# Altium integrated library NSC MiscPower.IntLib: 1417 symbols (part 21 of 39)
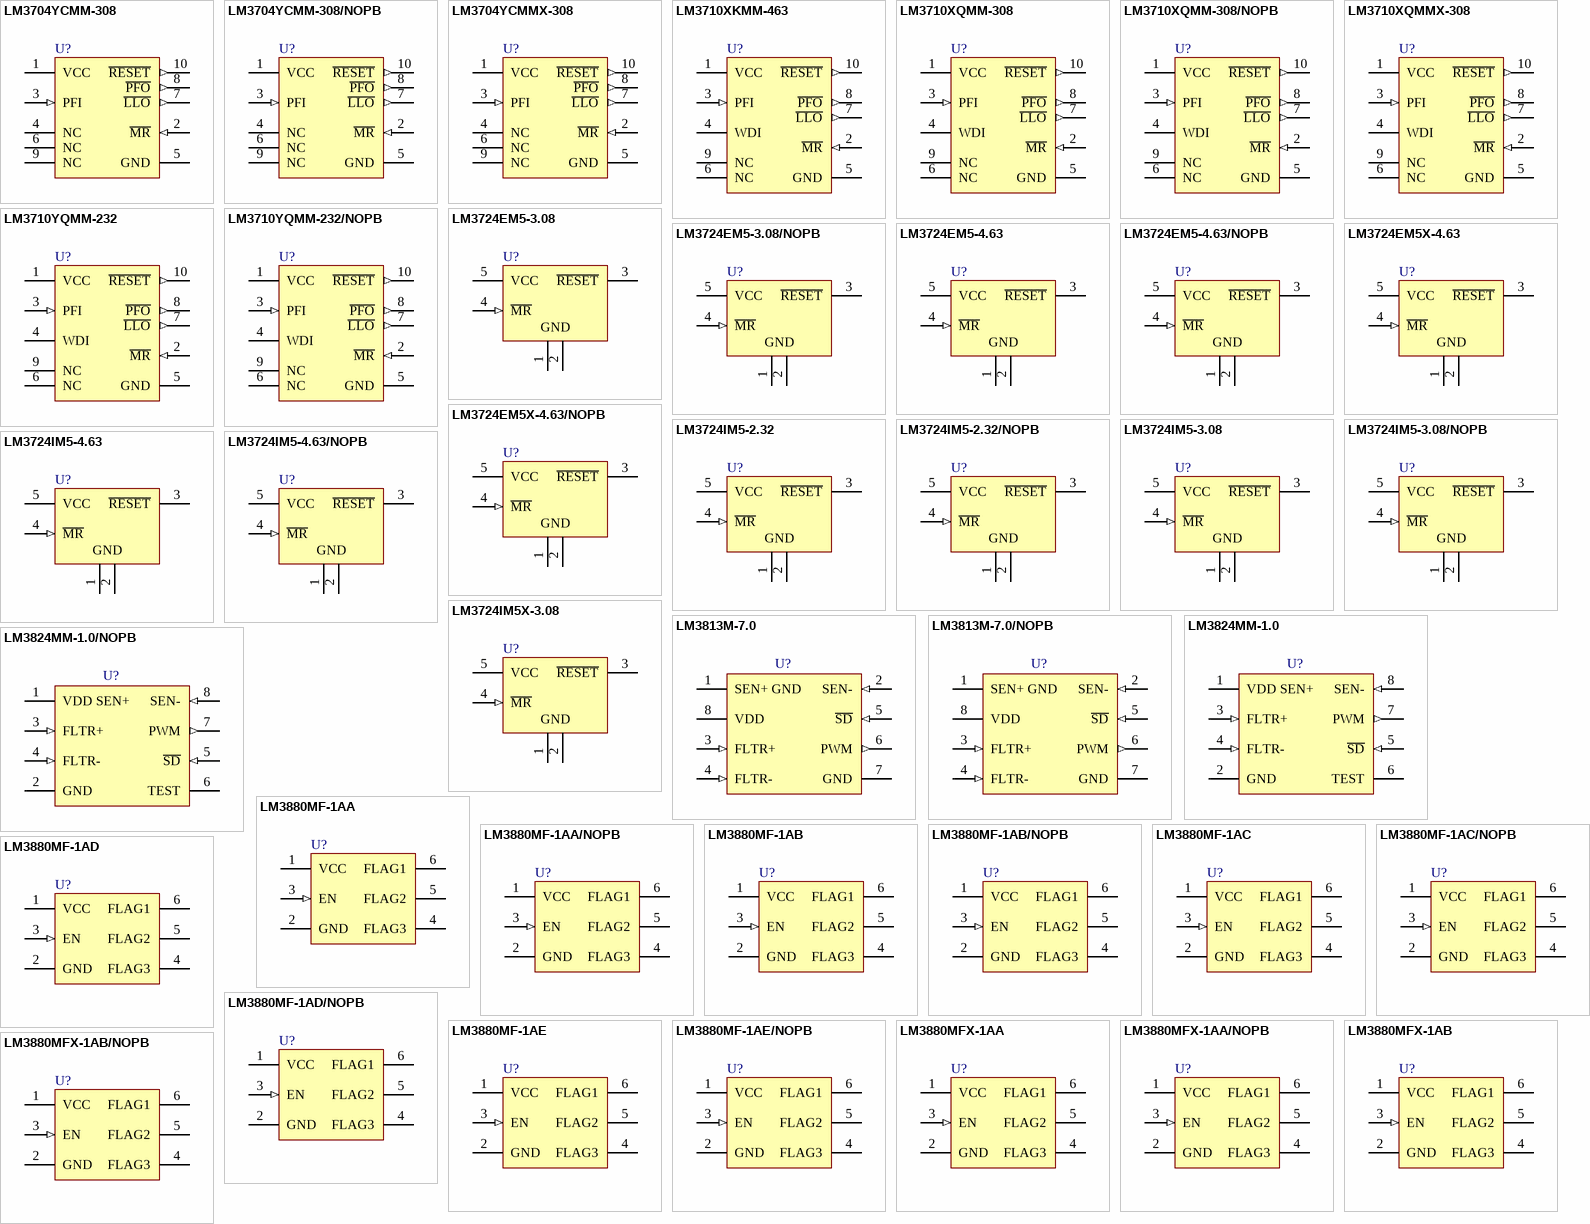
[diagram p71: symbols LM3704YCMM-308 to LM3880MFX-1AB/NOPB]

## LM3824MM-1.0
designator U?
Precision Current Gauge IC with Internal Zero Ohm Sense Element and PWM Output, 8-pin MSOP; PartNumber: LM3824MM-1.0; Manufacturer: National Semiconductor; PackageTopMarking: ZXTT*R24B; PowerWise: N; CompType: MiscPower; Published: 4-Dec-2008; DatasheetVersion: Jul-2000; PackageVersion: revF, Apr-2008; PackageReference: MUA08A; Publisher: Altium Limited; PackageDescription: MINI SOIC, .118 x .118 x .034in, 8 Lead, .0256in Pitch; Supplier 1: Farnell; Supplier Part Number 1: 1312738; RoHS: N; PinCount: 8; Code_JEDEC: MO-187-AA; ComponentLink1Description: LM3824 Datasheet; ComponentLink1URL: http://www.national.com/ds/LM/LM3824.pdf; ComponentLink2Description: LM3824 Web Page; ComponentLink2URL: http://www.national.com/pf/LM/LM3824.html; ComponentLink3Description: MUA08A Package Page; ComponentLink3URL: http://www.national.com/packaging/folders/mua08a.html
footprint MUA08A_N (TSOP, 8-Leads, Body 3x3mm, Pitch 0.65mm, IPC Medium Density)
footprint MUA08A_L (TSOP, 8-Leads, Body 3x3mm, Pitch 0.65mm, IPC High Density)
footprint MUA08A_M (TSOP, 8-Leads, Body 3x3mm, Pitch 0.65mm, IPC Low Density)
pins: 1 VDD SEN+ (power), 2 GND (power), 3 FLTR+ (in), 4 FLTR- (in), 5 ~{SD} (in), 6 TEST (power), 7 PWM (out), 8 SEN- (in)

## LM3824MM-1.0/NOPB
designator U?
Precision Current Gauge IC with Internal Zero Ohm Sense Element and PWM Output, 8-pin MSOP, Pb-Free; PartNumber: LM3824MM-1.0/NOPB; Manufacturer: National Semiconductor; PackageTopMarking: ZXTT*R24B; PowerWise: N; CompType: MiscPower; Published: 1-Mar-2010; DatasheetVersion: Jul-2000; PackageVersion: revF, Apr-2008; PackageReference: MUA08A; Publisher: Altium Limited; PackageDescription: MINI SOIC, .118 x .118 x .034in, 8 Lead, .0256in Pitch; Supplier 1: Digi-Key; Supplier Part Number 1: LM3824MM-1.0TR-ND; Supplier 2: Digi-Key; Supplier Part Number 2: LM3824MM-1.0CT-ND; RoHS: Y; PinCount: 8; Code_JEDEC: MO-187-AA; ComponentLink1Description: LM3824 Datasheet; ComponentLink1URL: http://www.national.com/ds/LM/LM3824.pdf; ComponentLink2Description: LM3824 Web Page; ComponentLink2URL: http://www.national.com/pf/LM/LM3824.html; ComponentLink3Description: MUA08A Package Page; ComponentLink3URL: http://www.national.com/packaging/folders/mua08a.html
footprint MUA08A_N (TSOP, 8-Leads, Body 3x3mm, Pitch 0.65mm, IPC Medium Density)
footprint MUA08A_L (TSOP, 8-Leads, Body 3x3mm, Pitch 0.65mm, IPC High Density)
footprint MUA08A_M (TSOP, 8-Leads, Body 3x3mm, Pitch 0.65mm, IPC Low Density)
pins: 1 VDD SEN+ (power), 2 GND (power), 3 FLTR+ (in), 4 FLTR- (in), 5 ~{SD} (in), 6 TEST (power), 7 PWM (out), 8 SEN- (in)

## LM3880MF-1AA
designator U?
Power Sequencer, 6-pin SOT-23; PartNumber: LM3880MF-1AA; Manufacturer: National Semiconductor; PackageTopMarking: F20A*XTT; PowerWise: N; CompType: MiscPower; Published: 4-Dec-2008; DatasheetVersion: May-2008; PackageVersion: revC, Sep-2005; PackageReference: MF06A; Publisher: Altium Limited; PackageDescription: Molded SOT-23, .115 x .063 x .040in Body, 6 Lead, .0375in in Pitch; Supplier 1: Farnell; Supplier Part Number 1: 1342323; RoHS: N; PinCount: 6; Code_JEDEC: MO-178-AB; Code_IPC: SOT26A-6; ComponentLink1Description: LM3880 Datasheet; ComponentLink1URL: http://www.national.com/ds/LM/LM3880.pdf; ComponentLink2Description: LM3880 Web Page; ComponentLink2URL: http://www.national.com/pf/LM/LM3880.html; ComponentLink3Description: MF06A Package Page; ComponentLink3URL: http://www.national.com/packaging/folders/mf06a.html
footprint MF06A_N (SOT23, 6-Leads, Body 2.9x1.6mm, Pitch 0.95mm, Lead Span 2.8mm, IPC Medium Density)
footprint MF06A_L (SOT23, 6-Leads, Body 2.9x1.6mm, Pitch 0.95mm, Lead Span 2.8mm, IPC High Density)
footprint MF06A_M (SOT23, 6-Leads, Body 2.9x1.6mm, Pitch 0.95mm, Lead Span 2.8mm, IPC Low Density)
pins: 1 VCC (power), 2 GND (power), 3 EN (in), 4 FLAG3 (oc), 5 FLAG2 (oc), 6 FLAG1 (oc)

## LM3880MF-1AA/NOPB
designator U?
Power Sequencer, 6-pin SOT-23, Pb-Free; PartNumber: LM3880MF-1AA/NOPB; Manufacturer: National Semiconductor; PackageTopMarking: F20A*XTT; PowerWise: N; CompType: MiscPower; Published: 1-Mar-2010; DatasheetVersion: May-2008; PackageVersion: revC, Sep-2005; PackageReference: MF06A; Publisher: Altium Limited; PackageDescription: Molded SOT-23, .115 x .063 x .040in Body, 6 Lead, .0375in in Pitch; Supplier 1: Digi-Key; Supplier Part Number 1: LM3880MF-1AATR-ND; Supplier 2: Digi-Key; Supplier Part Number 2: LM3880MF-1AACT-ND; Supplier 3: Digi-Key; Supplier Part Number 3: LM3880MF-1AADKR-ND; Supplier 4: Farnell; Supplier Part Number 4: 1364356; RoHS: Y; PinCount: 6; Code_JEDEC: MO-178-AB; Code_IPC: SOT26A-6; ComponentLink1Description: LM3880 Datasheet; ComponentLink1URL: http://www.national.com/ds/LM/LM3880.pdf; ComponentLink2Description: LM3880 Web Page; ComponentLink2URL: http://www.national.com/pf/LM/LM3880.html; ComponentLink3Description: MF06A Package Page; ComponentLink3URL: http://www.national.com/packaging/folders/mf06a.html
footprint MF06A_N (SOT23, 6-Leads, Body 2.9x1.6mm, Pitch 0.95mm, Lead Span 2.8mm, IPC Medium Density)
footprint MF06A_L (SOT23, 6-Leads, Body 2.9x1.6mm, Pitch 0.95mm, Lead Span 2.8mm, IPC High Density)
footprint MF06A_M (SOT23, 6-Leads, Body 2.9x1.6mm, Pitch 0.95mm, Lead Span 2.8mm, IPC Low Density)
pins: 1 VCC (power), 2 GND (power), 3 EN (in), 4 FLAG3 (oc), 5 FLAG2 (oc), 6 FLAG1 (oc)

## LM3880MF-1AB
designator U?
Power Sequencer, 6-pin SOT-23; PartNumber: LM3880MF-1AB; Manufacturer: National Semiconductor; PackageTopMarking: F21A*XTT; PowerWise: N; CompType: MiscPower; Published: 4-Dec-2008; DatasheetVersion: May-2008; PackageVersion: revC, Sep-2005; PackageReference: MF06A; Publisher: Altium Limited; PackageDescription: Molded SOT-23, .115 x .063 x .040in Body, 6 Lead, .0375in in Pitch; Supplier 1: Farnell; Supplier Part Number 1: 1271399; RoHS: N; PinCount: 6; Code_JEDEC: MO-178-AB; Code_IPC: SOT26A-6; ComponentLink1Description: LM3880 Datasheet; ComponentLink1URL: http://www.national.com/ds/LM/LM3880.pdf; ComponentLink2Description: LM3880 Web Page; ComponentLink2URL: http://www.national.com/pf/LM/LM3880.html; ComponentLink3Description: MF06A Package Page; ComponentLink3URL: http://www.national.com/packaging/folders/mf06a.html
footprint MF06A_N (SOT23, 6-Leads, Body 2.9x1.6mm, Pitch 0.95mm, Lead Span 2.8mm, IPC Medium Density)
footprint MF06A_L (SOT23, 6-Leads, Body 2.9x1.6mm, Pitch 0.95mm, Lead Span 2.8mm, IPC High Density)
footprint MF06A_M (SOT23, 6-Leads, Body 2.9x1.6mm, Pitch 0.95mm, Lead Span 2.8mm, IPC Low Density)
pins: 1 VCC (power), 2 GND (power), 3 EN (in), 4 FLAG3 (oc), 5 FLAG2 (oc), 6 FLAG1 (oc)

## LM3880MF-1AB/NOPB
designator U?
Power Sequencer, 6-pin SOT-23, Pb-Free; PartNumber: LM3880MF-1AB/NOPB; Manufacturer: National Semiconductor; PackageTopMarking: F21A*XTT; PowerWise: N; CompType: MiscPower; Published: 1-Mar-2010; DatasheetVersion: May-2008; PackageVersion: revC, Sep-2005; PackageReference: MF06A; Publisher: Altium Limited; PackageDescription: Molded SOT-23, .115 x .063 x .040in Body, 6 Lead, .0375in in Pitch; Supplier 1: Digi-Key; Supplier Part Number 1: LM3880MF-1ABTR-ND; Supplier 2: Digi-Key; Supplier Part Number 2: LM3880MF-1ABCT-ND; Supplier 3: Digi-Key; Supplier Part Number 3: LM3880MF-1ABDKR-ND; RoHS: Y; PinCount: 6; Code_JEDEC: MO-178-AB; Code_IPC: SOT26A-6; ComponentLink1Description: LM3880 Datasheet; ComponentLink1URL: http://www.national.com/ds/LM/LM3880.pdf; ComponentLink2Description: LM3880 Web Page; ComponentLink2URL: http://www.national.com/pf/LM/LM3880.html; ComponentLink3Description: MF06A Package Page; ComponentLink3URL: http://www.national.com/packaging/folders/mf06a.html
footprint MF06A_N (SOT23, 6-Leads, Body 2.9x1.6mm, Pitch 0.95mm, Lead Span 2.8mm, IPC Medium Density)
footprint MF06A_L (SOT23, 6-Leads, Body 2.9x1.6mm, Pitch 0.95mm, Lead Span 2.8mm, IPC High Density)
footprint MF06A_M (SOT23, 6-Leads, Body 2.9x1.6mm, Pitch 0.95mm, Lead Span 2.8mm, IPC Low Density)
pins: 1 VCC (power), 2 GND (power), 3 EN (in), 4 FLAG3 (oc), 5 FLAG2 (oc), 6 FLAG1 (oc)

## LM3880MF-1AC
designator U?
Power Sequencer, 6-pin SOT-23; PartNumber: LM3880MF-1AC; Manufacturer: National Semiconductor; PackageTopMarking: F22A*XTT; PowerWise: N; CompType: MiscPower; Published: 4-Dec-2008; DatasheetVersion: May-2008; PackageVersion: revC, Sep-2005; PackageReference: MF06A; Publisher: Altium Limited; PackageDescription: Molded SOT-23, .115 x .063 x .040in Body, 6 Lead, .0375in in Pitch; RoHS: N; PinCount: 6; Code_JEDEC: MO-178-AB; Code_IPC: SOT26A-6; ComponentLink1Description: LM3880 Datasheet; ComponentLink1URL: http://www.national.com/ds/LM/LM3880.pdf; ComponentLink2Description: LM3880 Web Page; ComponentLink2URL: http://www.national.com/pf/LM/LM3880.html; ComponentLink3Description: MF06A Package Page; ComponentLink3URL: http://www.national.com/packaging/folders/mf06a.html
footprint MF06A_N (SOT23, 6-Leads, Body 2.9x1.6mm, Pitch 0.95mm, Lead Span 2.8mm, IPC Medium Density)
footprint MF06A_L (SOT23, 6-Leads, Body 2.9x1.6mm, Pitch 0.95mm, Lead Span 2.8mm, IPC High Density)
footprint MF06A_M (SOT23, 6-Leads, Body 2.9x1.6mm, Pitch 0.95mm, Lead Span 2.8mm, IPC Low Density)
pins: 1 VCC (power), 2 GND (power), 3 EN (in), 4 FLAG3 (oc), 5 FLAG2 (oc), 6 FLAG1 (oc)

## LM3880MF-1AC/NOPB
designator U?
Power Sequencer, 6-pin SOT-23, Pb-Free; PartNumber: LM3880MF-1AC/NOPB; Manufacturer: National Semiconductor; PackageTopMarking: F22A*XTT; PowerWise: N; CompType: MiscPower; Published: 1-Mar-2010; DatasheetVersion: May-2008; PackageVersion: revC, Sep-2005; PackageReference: MF06A; Publisher: Altium Limited; PackageDescription: Molded SOT-23, .115 x .063 x .040in Body, 6 Lead, .0375in in Pitch; Supplier 1: Digi-Key; Supplier Part Number 1: LM3880MF-1ACTR-ND; Supplier 2: Digi-Key; Supplier Part Number 2: LM3880MF-1ACCT-ND; Supplier 3: Digi-Key; Supplier Part Number 3: LM3880MF-1ACDKR-ND; RoHS: Y; PinCount: 6; Code_JEDEC: MO-178-AB; Code_IPC: SOT26A-6; ComponentLink1Description: LM3880 Datasheet; ComponentLink1URL: http://www.national.com/ds/LM/LM3880.pdf; ComponentLink2Description: LM3880 Web Page; ComponentLink2URL: http://www.national.com/pf/LM/LM3880.html; ComponentLink3Description: MF06A Package Page; ComponentLink3URL: http://www.national.com/packaging/folders/mf06a.html
footprint MF06A_N (SOT23, 6-Leads, Body 2.9x1.6mm, Pitch 0.95mm, Lead Span 2.8mm, IPC Medium Density)
footprint MF06A_L (SOT23, 6-Leads, Body 2.9x1.6mm, Pitch 0.95mm, Lead Span 2.8mm, IPC High Density)
footprint MF06A_M (SOT23, 6-Leads, Body 2.9x1.6mm, Pitch 0.95mm, Lead Span 2.8mm, IPC Low Density)
pins: 1 VCC (power), 2 GND (power), 3 EN (in), 4 FLAG3 (oc), 5 FLAG2 (oc), 6 FLAG1 (oc)

## LM3880MF-1AD
designator U?
Power Sequencer, 6-pin SOT-23; PartNumber: LM3880MF-1AD; Manufacturer: National Semiconductor; PackageTopMarking: F23A*XTT; PowerWise: N; CompType: MiscPower; Published: 4-Dec-2008; DatasheetVersion: May-2008; PackageVersion: revC, Sep-2005; PackageReference: MF06A; Publisher: Altium Limited; PackageDescription: Molded SOT-23, .115 x .063 x .040in Body, 6 Lead, .0375in in Pitch; RoHS: N; PinCount: 6; Code_JEDEC: MO-178-AB; Code_IPC: SOT26A-6; ComponentLink1Description: LM3880 Datasheet; ComponentLink1URL: http://www.national.com/ds/LM/LM3880.pdf; ComponentLink2Description: LM3880 Web Page; ComponentLink2URL: http://www.national.com/pf/LM/LM3880.html; ComponentLink3Description: MF06A Package Page; ComponentLink3URL: http://www.national.com/packaging/folders/mf06a.html
footprint MF06A_N (SOT23, 6-Leads, Body 2.9x1.6mm, Pitch 0.95mm, Lead Span 2.8mm, IPC Medium Density)
footprint MF06A_L (SOT23, 6-Leads, Body 2.9x1.6mm, Pitch 0.95mm, Lead Span 2.8mm, IPC High Density)
footprint MF06A_M (SOT23, 6-Leads, Body 2.9x1.6mm, Pitch 0.95mm, Lead Span 2.8mm, IPC Low Density)
pins: 1 VCC (power), 2 GND (power), 3 EN (in), 4 FLAG3 (oc), 5 FLAG2 (oc), 6 FLAG1 (oc)

## LM3880MF-1AD/NOPB
designator U?
Power Sequencer, 6-pin SOT-23, Pb-Free; PartNumber: LM3880MF-1AD/NOPB; Manufacturer: National Semiconductor; PackageTopMarking: F23A*XTT; PowerWise: N; CompType: MiscPower; Published: 1-Mar-2010; DatasheetVersion: May-2008; PackageVersion: revC, Sep-2005; PackageReference: MF06A; Publisher: Altium Limited; PackageDescription: Molded SOT-23, .115 x .063 x .040in Body, 6 Lead, .0375in in Pitch; Supplier 1: Digi-Key; Supplier Part Number 1: LM3880MF-1ADTR-ND; Supplier 2: Digi-Key; Supplier Part Number 2: LM3880MF-1ADCT-ND; Supplier 3: Digi-Key; Supplier Part Number 3: LM3880MF-1ADDKR-ND; RoHS: Y; PinCount: 6; Code_JEDEC: MO-178-AB; Code_IPC: SOT26A-6; ComponentLink1Description: LM3880 Datasheet; ComponentLink1URL: http://www.national.com/ds/LM/LM3880.pdf; ComponentLink2Description: LM3880 Web Page; ComponentLink2URL: http://www.national.com/pf/LM/LM3880.html; ComponentLink3Description: MF06A Package Page; ComponentLink3URL: http://www.national.com/packaging/folders/mf06a.html
footprint MF06A_N (SOT23, 6-Leads, Body 2.9x1.6mm, Pitch 0.95mm, Lead Span 2.8mm, IPC Medium Density)
footprint MF06A_L (SOT23, 6-Leads, Body 2.9x1.6mm, Pitch 0.95mm, Lead Span 2.8mm, IPC High Density)
footprint MF06A_M (SOT23, 6-Leads, Body 2.9x1.6mm, Pitch 0.95mm, Lead Span 2.8mm, IPC Low Density)
pins: 1 VCC (power), 2 GND (power), 3 EN (in), 4 FLAG3 (oc), 5 FLAG2 (oc), 6 FLAG1 (oc)

## LM3880MF-1AE
designator U?
Power Sequencer, 6-pin SOT-23; PartNumber: LM3880MF-1AE; Manufacturer: National Semiconductor; PackageTopMarking: F25A*XTT; PowerWise: N; CompType: MiscPower; Published: 4-Dec-2008; DatasheetVersion: May-2008; PackageVersion: revC, Sep-2005; PackageReference: MF06A; Publisher: Altium Limited; PackageDescription: Molded SOT-23, .115 x .063 x .040in Body, 6 Lead, .0375in in Pitch; RoHS: Y; PinCount: 6; Code_JEDEC: MO-178-AB; Code_IPC: SOT26A-6; ComponentLink1Description: LM3880 Datasheet; ComponentLink1URL: http://www.national.com/ds/LM/LM3880.pdf; ComponentLink2Description: LM3880 Web Page; ComponentLink2URL: http://www.national.com/pf/LM/LM3880.html; ComponentLink3Description: MF06A Package Page; ComponentLink3URL: http://www.national.com/packaging/folders/mf06a.html
footprint MF06A_N (SOT23, 6-Leads, Body 2.9x1.6mm, Pitch 0.95mm, Lead Span 2.8mm, IPC Medium Density)
footprint MF06A_L (SOT23, 6-Leads, Body 2.9x1.6mm, Pitch 0.95mm, Lead Span 2.8mm, IPC High Density)
footprint MF06A_M (SOT23, 6-Leads, Body 2.9x1.6mm, Pitch 0.95mm, Lead Span 2.8mm, IPC Low Density)
pins: 1 VCC (power), 2 GND (power), 3 EN (in), 4 FLAG3 (oc), 5 FLAG2 (oc), 6 FLAG1 (oc)

## LM3880MF-1AE/NOPB
designator U?
Power Sequencer, 6-pin SOT-23, Pb-Free; PartNumber: LM3880MF-1AE/NOPB; Manufacturer: National Semiconductor; PackageTopMarking: F25A*XTT; PowerWise: N; CompType: MiscPower; Published: 1-Mar-2010; DatasheetVersion: May-2008; PackageVersion: revC, Sep-2005; PackageReference: MF06A; Publisher: Altium Limited; PackageDescription: Molded SOT-23, .115 x .063 x .040in Body, 6 Lead, .0375in in Pitch; Supplier 1: Digi-Key; Supplier Part Number 1: LM3880MF-1AETR-ND; Supplier 2: Digi-Key; Supplier Part Number 2: LM3880MF-1AECT-ND; Supplier 3: Digi-Key; Supplier Part Number 3: LM3880MF-1AEDKR-ND; RoHS: Y; PinCount: 6; Code_JEDEC: MO-178-AB; Code_IPC: SOT26A-6; ComponentLink1Description: LM3880 Datasheet; ComponentLink1URL: http://www.national.com/ds/LM/LM3880.pdf; ComponentLink2Description: LM3880 Web Page; ComponentLink2URL: http://www.national.com/pf/LM/LM3880.html; ComponentLink3Description: MF06A Package Page; ComponentLink3URL: http://www.national.com/packaging/folders/mf06a.html
footprint MF06A_N (SOT23, 6-Leads, Body 2.9x1.6mm, Pitch 0.95mm, Lead Span 2.8mm, IPC Medium Density)
footprint MF06A_L (SOT23, 6-Leads, Body 2.9x1.6mm, Pitch 0.95mm, Lead Span 2.8mm, IPC High Density)
footprint MF06A_M (SOT23, 6-Leads, Body 2.9x1.6mm, Pitch 0.95mm, Lead Span 2.8mm, IPC Low Density)
pins: 1 VCC (power), 2 GND (power), 3 EN (in), 4 FLAG3 (oc), 5 FLAG2 (oc), 6 FLAG1 (oc)

## LM3880MFX-1AA
designator U?
Power Sequencer, 6-pin SOT-23; PartNumber: LM3880MFX-1AA; Manufacturer: National Semiconductor; PackageTopMarking: F20A*XTT; PowerWise: N; CompType: MiscPower; Published: 1-Mar-2010; DatasheetVersion: May-2008; PackageVersion: revC, Sep-2005; PackageReference: MF06A; Publisher: Altium Limited; PackageDescription: Molded SOT-23, .115 x .063 x .040in Body, 6 Lead, .0375in in Pitch; RoHS: N; PinCount: 6; Code_JEDEC: MO-178-AB; Code_IPC: SOT26A-6; ComponentLink1Description: LM3880 Datasheet; ComponentLink1URL: http://www.national.com/ds/LM/LM3880.pdf; ComponentLink2Description: LM3880 Web Page; ComponentLink2URL: http://www.national.com/pf/LM/LM3880.html; ComponentLink3Description: MF06A Package Page; ComponentLink3URL: http://www.national.com/packaging/folders/mf06a.html
footprint MF06A_N (SOT23, 6-Leads, Body 2.9x1.6mm, Pitch 0.95mm, Lead Span 2.8mm, IPC Medium Density)
footprint MF06A_L (SOT23, 6-Leads, Body 2.9x1.6mm, Pitch 0.95mm, Lead Span 2.8mm, IPC High Density)
footprint MF06A_M (SOT23, 6-Leads, Body 2.9x1.6mm, Pitch 0.95mm, Lead Span 2.8mm, IPC Low Density)
pins: 1 VCC (power), 2 GND (power), 3 EN (in), 4 FLAG3 (oc), 5 FLAG2 (oc), 6 FLAG1 (oc)

## LM3880MFX-1AA/NOPB
designator U?
Power Sequencer, 6-pin SOT-23, Pb-Free; PartNumber: LM3880MFX-1AA/NOPB; Manufacturer: National Semiconductor; PackageTopMarking: F20A*XTT; PowerWise: N; CompType: MiscPower; Published: 1-Mar-2010; DatasheetVersion: May-2008; PackageVersion: revC, Sep-2005; PackageReference: MF06A; Publisher: Altium Limited; PackageDescription: Molded SOT-23, .115 x .063 x .040in Body, 6 Lead, .0375in in Pitch; Supplier 1: Digi-Key; Supplier Part Number 1: LM3880MFX-1AA-ND; RoHS: Y; PinCount: 6; Code_JEDEC: MO-178-AB; Code_IPC: SOT26A-6; ComponentLink1Description: LM3880 Datasheet; ComponentLink1URL: http://www.national.com/ds/LM/LM3880.pdf; ComponentLink2Description: LM3880 Web Page; ComponentLink2URL: http://www.national.com/pf/LM/LM3880.html; ComponentLink3Description: MF06A Package Page; ComponentLink3URL: http://www.national.com/packaging/folders/mf06a.html
footprint MF06A_N (SOT23, 6-Leads, Body 2.9x1.6mm, Pitch 0.95mm, Lead Span 2.8mm, IPC Medium Density)
footprint MF06A_L (SOT23, 6-Leads, Body 2.9x1.6mm, Pitch 0.95mm, Lead Span 2.8mm, IPC High Density)
footprint MF06A_M (SOT23, 6-Leads, Body 2.9x1.6mm, Pitch 0.95mm, Lead Span 2.8mm, IPC Low Density)
pins: 1 VCC (power), 2 GND (power), 3 EN (in), 4 FLAG3 (oc), 5 FLAG2 (oc), 6 FLAG1 (oc)

## LM3880MFX-1AB
designator U?
Power Sequencer, 6-pin SOT-23; PartNumber: LM3880MFX-1AB; Manufacturer: National Semiconductor; PackageTopMarking: F21A*XTT; PowerWise: N; CompType: MiscPower; Published: 1-Mar-2010; DatasheetVersion: May-2008; PackageVersion: revC, Sep-2005; PackageReference: MF06A; Publisher: Altium Limited; PackageDescription: Molded SOT-23, .115 x .063 x .040in Body, 6 Lead, .0375in in Pitch; RoHS: N; PinCount: 6; Code_JEDEC: MO-178-AB; Code_IPC: SOT26A-6; ComponentLink1Description: LM3880 Datasheet; ComponentLink1URL: http://www.national.com/ds/LM/LM3880.pdf; ComponentLink2Description: LM3880 Web Page; ComponentLink2URL: http://www.national.com/pf/LM/LM3880.html; ComponentLink3Description: MF06A Package Page; ComponentLink3URL: http://www.national.com/packaging/folders/mf06a.html
footprint MF06A_N (SOT23, 6-Leads, Body 2.9x1.6mm, Pitch 0.95mm, Lead Span 2.8mm, IPC Medium Density)
footprint MF06A_L (SOT23, 6-Leads, Body 2.9x1.6mm, Pitch 0.95mm, Lead Span 2.8mm, IPC High Density)
footprint MF06A_M (SOT23, 6-Leads, Body 2.9x1.6mm, Pitch 0.95mm, Lead Span 2.8mm, IPC Low Density)
pins: 1 VCC (power), 2 GND (power), 3 EN (in), 4 FLAG3 (oc), 5 FLAG2 (oc), 6 FLAG1 (oc)

## LM3880MFX-1AB/NOPB
designator U?
Power Sequencer, 6-pin SOT-23, Pb-Free; PartNumber: LM3880MFX-1AB/NOPB; Manufacturer: National Semiconductor; PackageTopMarking: F21A*XTT; PowerWise: N; CompType: MiscPower; Published: 1-Mar-2010; DatasheetVersion: May-2008; PackageVersion: revC, Sep-2005; PackageReference: MF06A; Publisher: Altium Limited; PackageDescription: Molded SOT-23, .115 x .063 x .040in Body, 6 Lead, .0375in in Pitch; Supplier 1: Digi-Key; Supplier Part Number 1: LM3880MFX-1AB-ND; RoHS: Y; PinCount: 6; Code_JEDEC: MO-178-AB; Code_IPC: SOT26A-6; ComponentLink1Description: LM3880 Datasheet; ComponentLink1URL: http://www.national.com/ds/LM/LM3880.pdf; ComponentLink2Description: LM3880 Web Page; ComponentLink2URL: http://www.national.com/pf/LM/LM3880.html; ComponentLink3Description: MF06A Package Page; ComponentLink3URL: http://www.national.com/packaging/folders/mf06a.html
footprint MF06A_N (SOT23, 6-Leads, Body 2.9x1.6mm, Pitch 0.95mm, Lead Span 2.8mm, IPC Medium Density)
footprint MF06A_L (SOT23, 6-Leads, Body 2.9x1.6mm, Pitch 0.95mm, Lead Span 2.8mm, IPC High Density)
footprint MF06A_M (SOT23, 6-Leads, Body 2.9x1.6mm, Pitch 0.95mm, Lead Span 2.8mm, IPC Low Density)
pins: 1 VCC (power), 2 GND (power), 3 EN (in), 4 FLAG3 (oc), 5 FLAG2 (oc), 6 FLAG1 (oc)

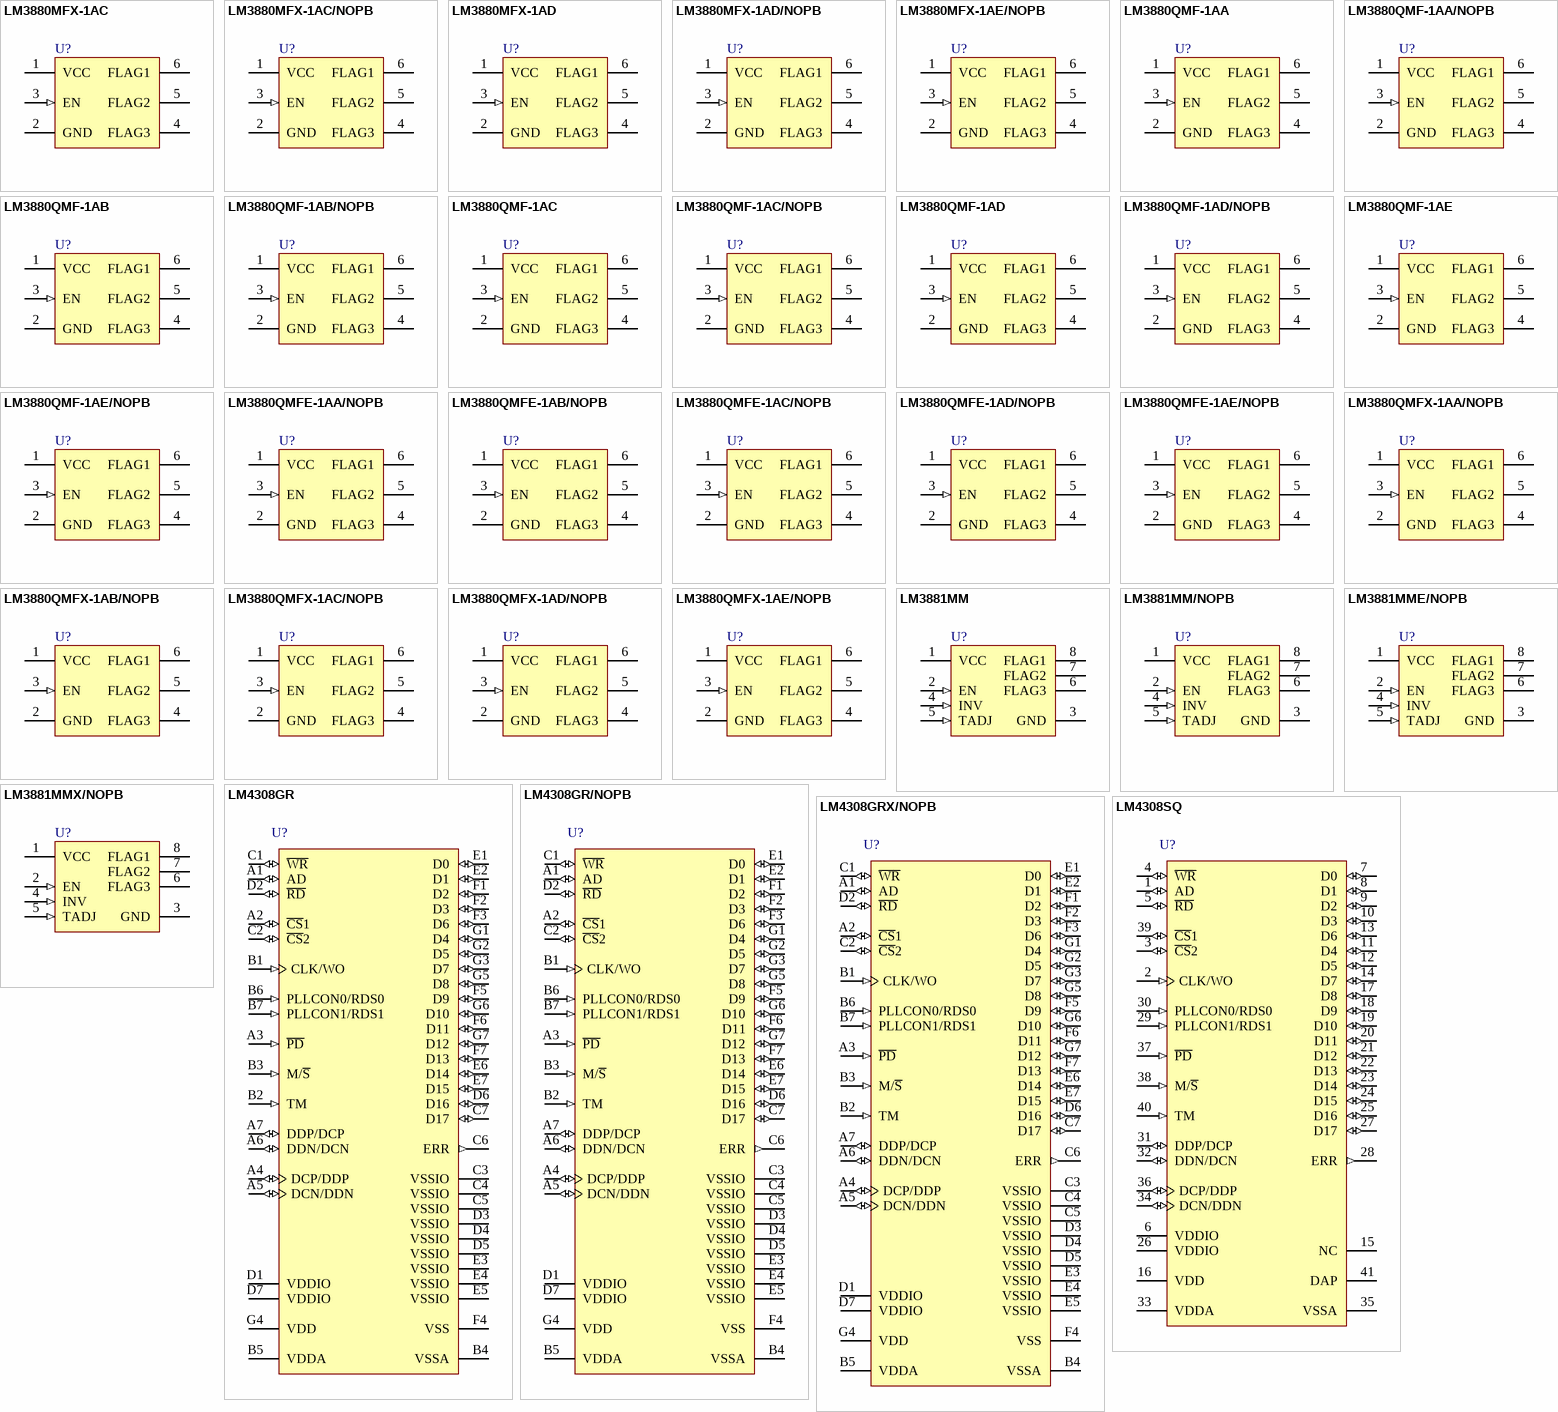
[diagram p23: symbols LM3880MFX-1AC to LM4308SQ]

## LM3880MFX-1AC
designator U?
Power Sequencer, 6-pin SOT-23; PartNumber: LM3880MFX-1AC; Manufacturer: National Semiconductor; PackageTopMarking: F22A*XTT; PowerWise: N; CompType: MiscPower; Published: 1-Mar-2010; DatasheetVersion: May-2008; PackageVersion: revC, Sep-2005; PackageReference: MF06A; Publisher: Altium Limited; PackageDescription: Molded SOT-23, .115 x .063 x .040in Body, 6 Lead, .0375in in Pitch; RoHS: N; PinCount: 6; Code_JEDEC: MO-178-AB; Code_IPC: SOT26A-6; ComponentLink1Description: LM3880 Datasheet; ComponentLink1URL: http://www.national.com/ds/LM/LM3880.pdf; ComponentLink2Description: LM3880 Web Page; ComponentLink2URL: http://www.national.com/pf/LM/LM3880.html; ComponentLink3Description: MF06A Package Page; ComponentLink3URL: http://www.national.com/packaging/folders/mf06a.html
footprint MF06A_N (SOT23, 6-Leads, Body 2.9x1.6mm, Pitch 0.95mm, Lead Span 2.8mm, IPC Medium Density)
footprint MF06A_L (SOT23, 6-Leads, Body 2.9x1.6mm, Pitch 0.95mm, Lead Span 2.8mm, IPC High Density)
footprint MF06A_M (SOT23, 6-Leads, Body 2.9x1.6mm, Pitch 0.95mm, Lead Span 2.8mm, IPC Low Density)
pins: 1 VCC (power), 2 GND (power), 3 EN (in), 4 FLAG3 (oc), 5 FLAG2 (oc), 6 FLAG1 (oc)

## LM3880MFX-1AC/NOPB
designator U?
Power Sequencer, 6-pin SOT-23, Pb-Free; PartNumber: LM3880MFX-1AC/NOPB; Manufacturer: National Semiconductor; PackageTopMarking: F22A*XTT; PowerWise: N; CompType: MiscPower; Published: 1-Mar-2010; DatasheetVersion: May-2008; PackageVersion: revC, Sep-2005; PackageReference: MF06A; Publisher: Altium Limited; PackageDescription: Molded SOT-23, .115 x .063 x .040in Body, 6 Lead, .0375in in Pitch; Supplier 1: Digi-Key; Supplier Part Number 1: LM3880MFX-1AC-ND; RoHS: Y; PinCount: 6; Code_JEDEC: MO-178-AB; Code_IPC: SOT26A-6; ComponentLink1Description: LM3880 Datasheet; ComponentLink1URL: http://www.national.com/ds/LM/LM3880.pdf; ComponentLink2Description: LM3880 Web Page; ComponentLink2URL: http://www.national.com/pf/LM/LM3880.html; ComponentLink3Description: MF06A Package Page; ComponentLink3URL: http://www.national.com/packaging/folders/mf06a.html
footprint MF06A_N (SOT23, 6-Leads, Body 2.9x1.6mm, Pitch 0.95mm, Lead Span 2.8mm, IPC Medium Density)
footprint MF06A_L (SOT23, 6-Leads, Body 2.9x1.6mm, Pitch 0.95mm, Lead Span 2.8mm, IPC High Density)
footprint MF06A_M (SOT23, 6-Leads, Body 2.9x1.6mm, Pitch 0.95mm, Lead Span 2.8mm, IPC Low Density)
pins: 1 VCC (power), 2 GND (power), 3 EN (in), 4 FLAG3 (oc), 5 FLAG2 (oc), 6 FLAG1 (oc)

## LM3880MFX-1AD
designator U?
Power Sequencer, 6-pin SOT-23; PartNumber: LM3880MFX-1AD; Manufacturer: National Semiconductor; PackageTopMarking: F23A*XTT; PowerWise: N; CompType: MiscPower; Published: 1-Mar-2010; DatasheetVersion: May-2008; PackageVersion: revC, Sep-2005; PackageReference: MF06A; Publisher: Altium Limited; PackageDescription: Molded SOT-23, .115 x .063 x .040in Body, 6 Lead, .0375in in Pitch; RoHS: N; PinCount: 6; Code_JEDEC: MO-178-AB; Code_IPC: SOT26A-6; ComponentLink1Description: LM3880 Datasheet; ComponentLink1URL: http://www.national.com/ds/LM/LM3880.pdf; ComponentLink2Description: LM3880 Web Page; ComponentLink2URL: http://www.national.com/pf/LM/LM3880.html; ComponentLink3Description: MF06A Package Page; ComponentLink3URL: http://www.national.com/packaging/folders/mf06a.html
footprint MF06A_N (SOT23, 6-Leads, Body 2.9x1.6mm, Pitch 0.95mm, Lead Span 2.8mm, IPC Medium Density)
footprint MF06A_L (SOT23, 6-Leads, Body 2.9x1.6mm, Pitch 0.95mm, Lead Span 2.8mm, IPC High Density)
footprint MF06A_M (SOT23, 6-Leads, Body 2.9x1.6mm, Pitch 0.95mm, Lead Span 2.8mm, IPC Low Density)
pins: 1 VCC (power), 2 GND (power), 3 EN (in), 4 FLAG3 (oc), 5 FLAG2 (oc), 6 FLAG1 (oc)

## LM3880MFX-1AD/NOPB
designator U?
Power Sequencer, 6-pin SOT-23, Pb-Free; PartNumber: LM3880MFX-1AD/NOPB; Manufacturer: National Semiconductor; PackageTopMarking: F23A*XTT; PowerWise: N; CompType: MiscPower; Published: 1-Mar-2010; DatasheetVersion: May-2008; PackageVersion: revC, Sep-2005; PackageReference: MF06A; Publisher: Altium Limited; PackageDescription: Molded SOT-23, .115 x .063 x .040in Body, 6 Lead, .0375in in Pitch; Supplier 1: Digi-Key; Supplier Part Number 1: LM3880MFX-1AD-ND; RoHS: Y; PinCount: 6; Code_JEDEC: MO-178-AB; Code_IPC: SOT26A-6; ComponentLink1Description: LM3880 Datasheet; ComponentLink1URL: http://www.national.com/ds/LM/LM3880.pdf; ComponentLink2Description: LM3880 Web Page; ComponentLink2URL: http://www.national.com/pf/LM/LM3880.html; ComponentLink3Description: MF06A Package Page; ComponentLink3URL: http://www.national.com/packaging/folders/mf06a.html
footprint MF06A_N (SOT23, 6-Leads, Body 2.9x1.6mm, Pitch 0.95mm, Lead Span 2.8mm, IPC Medium Density)
footprint MF06A_L (SOT23, 6-Leads, Body 2.9x1.6mm, Pitch 0.95mm, Lead Span 2.8mm, IPC High Density)
footprint MF06A_M (SOT23, 6-Leads, Body 2.9x1.6mm, Pitch 0.95mm, Lead Span 2.8mm, IPC Low Density)
pins: 1 VCC (power), 2 GND (power), 3 EN (in), 4 FLAG3 (oc), 5 FLAG2 (oc), 6 FLAG1 (oc)

## LM3880MFX-1AE/NOPB
designator U?
Power Sequencer, 6-pin SOT-23, Pb-Free; PartNumber: LM3880MFX-1AE/NOPB; Manufacturer: National Semiconductor; PackageTopMarking: F25A*XTT; PowerWise: N; CompType: MiscPower; Published: 1-Mar-2010; DatasheetVersion: May-2008; PackageVersion: revC, Sep-2005; PackageReference: MF06A; Publisher: Altium Limited; PackageDescription: Molded SOT-23, .115 x .063 x .040in Body, 6 Lead, .0375in in Pitch; Supplier 1: Digi-Key; Supplier Part Number 1: LM3880MFX-1AE-ND; RoHS: Y; PinCount: 6; Code_JEDEC: MO-178-AB; Code_IPC: SOT26A-6; ComponentLink1Description: LM3880 Datasheet; ComponentLink1URL: http://www.national.com/ds/LM/LM3880.pdf; ComponentLink2Description: LM3880 Web Page; ComponentLink2URL: http://www.national.com/pf/LM/LM3880.html; ComponentLink3Description: MF06A Package Page; ComponentLink3URL: http://www.national.com/packaging/folders/mf06a.html
footprint MF06A_N (SOT23, 6-Leads, Body 2.9x1.6mm, Pitch 0.95mm, Lead Span 2.8mm, IPC Medium Density)
footprint MF06A_L (SOT23, 6-Leads, Body 2.9x1.6mm, Pitch 0.95mm, Lead Span 2.8mm, IPC High Density)
footprint MF06A_M (SOT23, 6-Leads, Body 2.9x1.6mm, Pitch 0.95mm, Lead Span 2.8mm, IPC Low Density)
pins: 1 VCC (power), 2 GND (power), 3 EN (in), 4 FLAG3 (oc), 5 FLAG2 (oc), 6 FLAG1 (oc)

## LM3880QMF-1AA
designator U?
Power Sequencer, 6-pin SOT-23; PartNumber: LM3880QMF-1AA; Manufacturer: National Semiconductor; PackageTopMarking: F27A*XTT; PowerWise: N; CompType: MiscPower; Published: 4-Dec-2008; DatasheetVersion: May-2008; PackageVersion: revC, Sep-2005; PackageReference: MF06A; Publisher: Altium Limited; PackageDescription: Molded SOT-23, .115 x .063 x .040in Body, 6 Lead, .0375in in Pitch; RoHS: Y; PinCount: 6; Code_JEDEC: MO-178-AB; Code_IPC: SOT26A-6; ComponentLink1Description: LM3880Q Datasheet; ComponentLink1URL: http://www.national.com/ds/LM/LM3880.pdf; ComponentLink2Description: LM3880Q Web Page; ComponentLink2URL: http://www.national.com/pf/LM/LM3880Q.html; ComponentLink3Description: MF06A Package Page; ComponentLink3URL: http://www.national.com/packaging/folders/mf06a.html
footprint MF06A_N (SOT23, 6-Leads, Body 2.9x1.6mm, Pitch 0.95mm, Lead Span 2.8mm, IPC Medium Density)
footprint MF06A_L (SOT23, 6-Leads, Body 2.9x1.6mm, Pitch 0.95mm, Lead Span 2.8mm, IPC High Density)
footprint MF06A_M (SOT23, 6-Leads, Body 2.9x1.6mm, Pitch 0.95mm, Lead Span 2.8mm, IPC Low Density)
pins: 1 VCC (power), 2 GND (power), 3 EN (in), 4 FLAG3 (oc), 5 FLAG2 (oc), 6 FLAG1 (oc)

## LM3880QMF-1AA/NOPB
designator U?
Power Sequencer, 6-pin SOT-23, Pb-Free; PartNumber: LM3880QMF-1AA/NOPB; Manufacturer: National Semiconductor; PackageTopMarking: F27A*XTT; PowerWise: N; CompType: MiscPower; Published: 1-Mar-2010; DatasheetVersion: May-2008; PackageVersion: revC, Sep-2005; PackageReference: MF06A; Publisher: Altium Limited; PackageDescription: Molded SOT-23, .115 x .063 x .040in Body, 6 Lead, .0375in in Pitch; Supplier 1: Digi-Key; Supplier Part Number 1: LM3880QMF-1AATR-ND; Supplier 2: Digi-Key; Supplier Part Number 2: LM3880QMF-1AACT-ND; Supplier 3: Digi-Key; Supplier Part Number 3: LM3880QMF-1AADKR-ND; RoHS: Y; PinCount: 6; Code_JEDEC: MO-178-AB; Code_IPC: SOT26A-6; ComponentLink1Description: LM3880Q Datasheet; ComponentLink1URL: http://www.national.com/ds/LM/LM3880.pdf; ComponentLink2Description: LM3880Q Web Page; ComponentLink2URL: http://www.national.com/pf/LM/LM3880Q.html; ComponentLink3Description: MF06A Package Page; ComponentLink3URL: http://www.national.com/packaging/folders/mf06a.html
footprint MF06A_N (SOT23, 6-Leads, Body 2.9x1.6mm, Pitch 0.95mm, Lead Span 2.8mm, IPC Medium Density)
footprint MF06A_L (SOT23, 6-Leads, Body 2.9x1.6mm, Pitch 0.95mm, Lead Span 2.8mm, IPC High Density)
footprint MF06A_M (SOT23, 6-Leads, Body 2.9x1.6mm, Pitch 0.95mm, Lead Span 2.8mm, IPC Low Density)
pins: 1 VCC (power), 2 GND (power), 3 EN (in), 4 FLAG3 (oc), 5 FLAG2 (oc), 6 FLAG1 (oc)

## LM3880QMF-1AB
designator U?
Power Sequencer, 6-pin SOT-23; PartNumber: LM3880QMF-1AB; Manufacturer: National Semiconductor; PackageTopMarking: F28A*XTT; PowerWise: N; CompType: MiscPower; Published: 4-Dec-2008; DatasheetVersion: May-2008; PackageVersion: revC, Sep-2005; PackageReference: MF06A; Publisher: Altium Limited; PackageDescription: Molded SOT-23, .115 x .063 x .040in Body, 6 Lead, .0375in in Pitch; RoHS: Y; PinCount: 6; Code_JEDEC: MO-178-AB; Code_IPC: SOT26A-6; ComponentLink1Description: LM3880Q Datasheet; ComponentLink1URL: http://www.national.com/ds/LM/LM3880.pdf; ComponentLink2Description: LM3880Q Web Page; ComponentLink2URL: http://www.national.com/pf/LM/LM3880Q.html; ComponentLink3Description: MF06A Package Page; ComponentLink3URL: http://www.national.com/packaging/folders/mf06a.html
footprint MF06A_N (SOT23, 6-Leads, Body 2.9x1.6mm, Pitch 0.95mm, Lead Span 2.8mm, IPC Medium Density)
footprint MF06A_L (SOT23, 6-Leads, Body 2.9x1.6mm, Pitch 0.95mm, Lead Span 2.8mm, IPC High Density)
footprint MF06A_M (SOT23, 6-Leads, Body 2.9x1.6mm, Pitch 0.95mm, Lead Span 2.8mm, IPC Low Density)
pins: 1 VCC (power), 2 GND (power), 3 EN (in), 4 FLAG3 (oc), 5 FLAG2 (oc), 6 FLAG1 (oc)

## LM3880QMF-1AB/NOPB
designator U?
Power Sequencer, 6-pin SOT-23, Pb-Free; PartNumber: LM3880QMF-1AB/NOPB; Manufacturer: National Semiconductor; PackageTopMarking: F28A*XTT; PowerWise: N; CompType: MiscPower; Published: 1-Mar-2010; DatasheetVersion: May-2008; PackageVersion: revC, Sep-2005; PackageReference: MF06A; Publisher: Altium Limited; PackageDescription: Molded SOT-23, .115 x .063 x .040in Body, 6 Lead, .0375in in Pitch; Supplier 1: Digi-Key; Supplier Part Number 1: LM3880QMF-1ABTR-ND; Supplier 2: Digi-Key; Supplier Part Number 2: LM3880QMF-1ABCT-ND; Supplier 3: Digi-Key; Supplier Part Number 3: LM3880QMF-1ABDKR-ND; RoHS: Y; PinCount: 6; Code_JEDEC: MO-178-AB; Code_IPC: SOT26A-6; ComponentLink1Description: LM3880Q Datasheet; ComponentLink1URL: http://www.national.com/ds/LM/LM3880.pdf; ComponentLink2Description: LM3880Q Web Page; ComponentLink2URL: http://www.national.com/pf/LM/LM3880Q.html; ComponentLink3Description: MF06A Package Page; ComponentLink3URL: http://www.national.com/packaging/folders/mf06a.html
footprint MF06A_N (SOT23, 6-Leads, Body 2.9x1.6mm, Pitch 0.95mm, Lead Span 2.8mm, IPC Medium Density)
footprint MF06A_L (SOT23, 6-Leads, Body 2.9x1.6mm, Pitch 0.95mm, Lead Span 2.8mm, IPC High Density)
footprint MF06A_M (SOT23, 6-Leads, Body 2.9x1.6mm, Pitch 0.95mm, Lead Span 2.8mm, IPC Low Density)
pins: 1 VCC (power), 2 GND (power), 3 EN (in), 4 FLAG3 (oc), 5 FLAG2 (oc), 6 FLAG1 (oc)

## LM3880QMF-1AC
designator U?
Power Sequencer, 6-pin SOT-23; PartNumber: LM3880QMF-1AC; Manufacturer: National Semiconductor; PackageTopMarking: F29A*XTT; PowerWise: N; CompType: MiscPower; Published: 4-Dec-2008; DatasheetVersion: May-2008; PackageVersion: revC, Sep-2005; PackageReference: MF06A; Publisher: Altium Limited; PackageDescription: Molded SOT-23, .115 x .063 x .040in Body, 6 Lead, .0375in in Pitch; RoHS: Y; PinCount: 6; Code_JEDEC: MO-178-AB; Code_IPC: SOT26A-6; ComponentLink1Description: LM3880Q Datasheet; ComponentLink1URL: http://www.national.com/ds/LM/LM3880.pdf; ComponentLink2Description: LM3880Q Web Page; ComponentLink2URL: http://www.national.com/pf/LM/LM3880Q.html; ComponentLink3Description: MF06A Package Page; ComponentLink3URL: http://www.national.com/packaging/folders/mf06a.html
footprint MF06A_N (SOT23, 6-Leads, Body 2.9x1.6mm, Pitch 0.95mm, Lead Span 2.8mm, IPC Medium Density)
footprint MF06A_L (SOT23, 6-Leads, Body 2.9x1.6mm, Pitch 0.95mm, Lead Span 2.8mm, IPC High Density)
footprint MF06A_M (SOT23, 6-Leads, Body 2.9x1.6mm, Pitch 0.95mm, Lead Span 2.8mm, IPC Low Density)
pins: 1 VCC (power), 2 GND (power), 3 EN (in), 4 FLAG3 (oc), 5 FLAG2 (oc), 6 FLAG1 (oc)

## LM3880QMF-1AC/NOPB
designator U?
Power Sequencer, 6-pin SOT-23, Pb-Free; PartNumber: LM3880QMF-1AC/NOPB; Manufacturer: National Semiconductor; PackageTopMarking: F29A*XTT; PowerWise: N; CompType: MiscPower; Published: 1-Mar-2010; DatasheetVersion: May-2008; PackageVersion: revC, Sep-2005; PackageReference: MF06A; Publisher: Altium Limited; PackageDescription: Molded SOT-23, .115 x .063 x .040in Body, 6 Lead, .0375in in Pitch; Supplier 1: Digi-Key; Supplier Part Number 1: LM3880QMF-1ACTR-ND; Supplier 2: Digi-Key; Supplier Part Number 2: LM3880QMF-1ACCT-ND; Supplier 3: Digi-Key; Supplier Part Number 3: LM3880QMF-1ACDKR-ND; RoHS: Y; PinCount: 6; Code_JEDEC: MO-178-AB; Code_IPC: SOT26A-6; ComponentLink1Description: LM3880Q Datasheet; ComponentLink1URL: http://www.national.com/ds/LM/LM3880.pdf; ComponentLink2Description: LM3880Q Web Page; ComponentLink2URL: http://www.national.com/pf/LM/LM3880Q.html; ComponentLink3Description: MF06A Package Page; ComponentLink3URL: http://www.national.com/packaging/folders/mf06a.html
footprint MF06A_N (SOT23, 6-Leads, Body 2.9x1.6mm, Pitch 0.95mm, Lead Span 2.8mm, IPC Medium Density)
footprint MF06A_L (SOT23, 6-Leads, Body 2.9x1.6mm, Pitch 0.95mm, Lead Span 2.8mm, IPC High Density)
footprint MF06A_M (SOT23, 6-Leads, Body 2.9x1.6mm, Pitch 0.95mm, Lead Span 2.8mm, IPC Low Density)
pins: 1 VCC (power), 2 GND (power), 3 EN (in), 4 FLAG3 (oc), 5 FLAG2 (oc), 6 FLAG1 (oc)

## LM3880QMF-1AD
designator U?
Power Sequencer, 6-pin SOT-23; PartNumber: LM3880QMF-1AD; Manufacturer: National Semiconductor; PackageTopMarking: F30A*XTT; PowerWise: N; CompType: MiscPower; Published: 4-Dec-2008; DatasheetVersion: May-2008; PackageVersion: revC, Sep-2005; PackageReference: MF06A; Publisher: Altium Limited; PackageDescription: Molded SOT-23, .115 x .063 x .040in Body, 6 Lead, .0375in in Pitch; RoHS: Y; PinCount: 6; Code_JEDEC: MO-178-AB; Code_IPC: SOT26A-6; ComponentLink1Description: LM3880Q Datasheet; ComponentLink1URL: http://www.national.com/ds/LM/LM3880.pdf; ComponentLink2Description: LM3880Q Web Page; ComponentLink2URL: http://www.national.com/pf/LM/LM3880Q.html; ComponentLink3Description: MF06A Package Page; ComponentLink3URL: http://www.national.com/packaging/folders/mf06a.html
footprint MF06A_N (SOT23, 6-Leads, Body 2.9x1.6mm, Pitch 0.95mm, Lead Span 2.8mm, IPC Medium Density)
footprint MF06A_L (SOT23, 6-Leads, Body 2.9x1.6mm, Pitch 0.95mm, Lead Span 2.8mm, IPC High Density)
footprint MF06A_M (SOT23, 6-Leads, Body 2.9x1.6mm, Pitch 0.95mm, Lead Span 2.8mm, IPC Low Density)
pins: 1 VCC (power), 2 GND (power), 3 EN (in), 4 FLAG3 (oc), 5 FLAG2 (oc), 6 FLAG1 (oc)

## LM3880QMF-1AD/NOPB
designator U?
Power Sequencer, 6-pin SOT-23, Pb-Free; PartNumber: LM3880QMF-1AD/NOPB; Manufacturer: National Semiconductor; PackageTopMarking: F30A*XTT; PowerWise: N; CompType: MiscPower; Published: 1-Mar-2010; DatasheetVersion: May-2008; PackageVersion: revC, Sep-2005; PackageReference: MF06A; Publisher: Altium Limited; PackageDescription: Molded SOT-23, .115 x .063 x .040in Body, 6 Lead, .0375in in Pitch; Supplier 1: Digi-Key; Supplier Part Number 1: LM3880QMF-1ADTR-ND; Supplier 2: Digi-Key; Supplier Part Number 2: LM3880QMF-1ADCT-ND; Supplier 3: Digi-Key; Supplier Part Number 3: LM3880QMF-1ADDKR-ND; RoHS: Y; PinCount: 6; Code_JEDEC: MO-178-AB; Code_IPC: SOT26A-6; ComponentLink1Description: LM3880Q Datasheet; ComponentLink1URL: http://www.national.com/ds/LM/LM3880.pdf; ComponentLink2Description: LM3880Q Web Page; ComponentLink2URL: http://www.national.com/pf/LM/LM3880Q.html; ComponentLink3Description: MF06A Package Page; ComponentLink3URL: http://www.national.com/packaging/folders/mf06a.html
footprint MF06A_N (SOT23, 6-Leads, Body 2.9x1.6mm, Pitch 0.95mm, Lead Span 2.8mm, IPC Medium Density)
footprint MF06A_L (SOT23, 6-Leads, Body 2.9x1.6mm, Pitch 0.95mm, Lead Span 2.8mm, IPC High Density)
footprint MF06A_M (SOT23, 6-Leads, Body 2.9x1.6mm, Pitch 0.95mm, Lead Span 2.8mm, IPC Low Density)
pins: 1 VCC (power), 2 GND (power), 3 EN (in), 4 FLAG3 (oc), 5 FLAG2 (oc), 6 FLAG1 (oc)

## LM3880QMF-1AE
designator U?
Power Sequencer, 6-pin SOT-23; PartNumber: LM3880QMF-1AE; Manufacturer: National Semiconductor; PackageTopMarking: F24A*XTT; PowerWise: N; CompType: MiscPower; Published: 4-Dec-2008; DatasheetVersion: May-2008; PackageVersion: revC, Sep-2005; PackageReference: MF06A; Publisher: Altium Limited; PackageDescription: Molded SOT-23, .115 x .063 x .040in Body, 6 Lead, .0375in in Pitch; RoHS: Y; PinCount: 6; Code_JEDEC: MO-178-AB; Code_IPC: SOT26A-6; ComponentLink1Description: LM3880Q Datasheet; ComponentLink1URL: http://www.national.com/ds/LM/LM3880.pdf; ComponentLink2Description: LM3880Q Web Page; ComponentLink2URL: http://www.national.com/pf/LM/LM3880Q.html; ComponentLink3Description: MF06A Package Page; ComponentLink3URL: http://www.national.com/packaging/folders/mf06a.html
footprint MF06A_N (SOT23, 6-Leads, Body 2.9x1.6mm, Pitch 0.95mm, Lead Span 2.8mm, IPC Medium Density)
footprint MF06A_L (SOT23, 6-Leads, Body 2.9x1.6mm, Pitch 0.95mm, Lead Span 2.8mm, IPC High Density)
footprint MF06A_M (SOT23, 6-Leads, Body 2.9x1.6mm, Pitch 0.95mm, Lead Span 2.8mm, IPC Low Density)
pins: 1 VCC (power), 2 GND (power), 3 EN (in), 4 FLAG3 (oc), 5 FLAG2 (oc), 6 FLAG1 (oc)

## LM3880QMF-1AE/NOPB
designator U?
Power Sequencer, 6-pin SOT-23, Pb-Free; PartNumber: LM3880QMF-1AE/NOPB; Manufacturer: National Semiconductor; PackageTopMarking: F24A*XTT; PowerWise: N; CompType: MiscPower; Published: 1-Mar-2010; DatasheetVersion: May-2008; PackageVersion: revC, Sep-2005; PackageReference: MF06A; Publisher: Altium Limited; PackageDescription: Molded SOT-23, .115 x .063 x .040in Body, 6 Lead, .0375in in Pitch; Supplier 1: Digi-Key; Supplier Part Number 1: LM3880QMF-1AE-ND; RoHS: Y; PinCount: 6; Code_JEDEC: MO-178-AB; Code_IPC: SOT26A-6; ComponentLink1Description: LM3880Q Datasheet; ComponentLink1URL: http://www.national.com/ds/LM/LM3880.pdf; ComponentLink2Description: LM3880Q Web Page; ComponentLink2URL: http://www.national.com/pf/LM/LM3880Q.html; ComponentLink3Description: MF06A Package Page; ComponentLink3URL: http://www.national.com/packaging/folders/mf06a.html
footprint MF06A_N (SOT23, 6-Leads, Body 2.9x1.6mm, Pitch 0.95mm, Lead Span 2.8mm, IPC Medium Density)
footprint MF06A_L (SOT23, 6-Leads, Body 2.9x1.6mm, Pitch 0.95mm, Lead Span 2.8mm, IPC High Density)
footprint MF06A_M (SOT23, 6-Leads, Body 2.9x1.6mm, Pitch 0.95mm, Lead Span 2.8mm, IPC Low Density)
pins: 1 VCC (power), 2 GND (power), 3 EN (in), 4 FLAG3 (oc), 5 FLAG2 (oc), 6 FLAG1 (oc)

## LM3880QMFE-1AA/NOPB
designator U?
Power Sequencer, 6-pin SOT-23, Pb-Free; PartNumber: LM3880QMFE-1AA/NOPB; Manufacturer: National Semiconductor; PackageTopMarking: F27A*XTT; PowerWise: N; CompType: MiscPower; Published: 1-Mar-2010; DatasheetVersion: May-2008; PackageVersion: revC, Sep-2005; PackageReference: MF06A; Publisher: Altium Limited; PackageDescription: Molded SOT-23, .115 x .063 x .040in Body, 6 Lead, .0375in in Pitch; Supplier 1: Digi-Key; Supplier Part Number 1: LM3880QMFE-1AA-ND; RoHS: Y; PinCount: 6; Code_JEDEC: MO-178-AB; Code_IPC: SOT26A-6; ComponentLink1Description: LM3880Q Datasheet; ComponentLink1URL: http://www.national.com/ds/LM/LM3880.pdf; ComponentLink2Description: LM3880Q Web Page; ComponentLink2URL: http://www.national.com/pf/LM/LM3880Q.html; ComponentLink3Description: MF06A Package Page; ComponentLink3URL: http://www.national.com/packaging/folders/mf06a.html
footprint MF06A_N (SOT23, 6-Leads, Body 2.9x1.6mm, Pitch 0.95mm, Lead Span 2.8mm, IPC Medium Density)
footprint MF06A_L (SOT23, 6-Leads, Body 2.9x1.6mm, Pitch 0.95mm, Lead Span 2.8mm, IPC High Density)
footprint MF06A_M (SOT23, 6-Leads, Body 2.9x1.6mm, Pitch 0.95mm, Lead Span 2.8mm, IPC Low Density)
pins: 1 VCC (power), 2 GND (power), 3 EN (in), 4 FLAG3 (oc), 5 FLAG2 (oc), 6 FLAG1 (oc)

## LM3880QMFE-1AB/NOPB
designator U?
Power Sequencer, 6-pin SOT-23, Pb-Free; PartNumber: LM3880QMFE-1AB/NOPB; Manufacturer: National Semiconductor; PackageTopMarking: F28A*XTT; PowerWise: N; CompType: MiscPower; Published: 1-Mar-2010; DatasheetVersion: May-2008; PackageVersion: revC, Sep-2005; PackageReference: MF06A; Publisher: Altium Limited; PackageDescription: Molded SOT-23, .115 x .063 x .040in Body, 6 Lead, .0375in in Pitch; Supplier 1: Digi-Key; Supplier Part Number 1: LM3880QMFE-1AB-ND; RoHS: Y; PinCount: 6; Code_JEDEC: MO-178-AB; Code_IPC: SOT26A-6; ComponentLink1Description: LM3880Q Datasheet; ComponentLink1URL: http://www.national.com/ds/LM/LM3880.pdf; ComponentLink2Description: LM3880Q Web Page; ComponentLink2URL: http://www.national.com/pf/LM/LM3880Q.html; ComponentLink3Description: MF06A Package Page; ComponentLink3URL: http://www.national.com/packaging/folders/mf06a.html
footprint MF06A_N (SOT23, 6-Leads, Body 2.9x1.6mm, Pitch 0.95mm, Lead Span 2.8mm, IPC Medium Density)
footprint MF06A_L (SOT23, 6-Leads, Body 2.9x1.6mm, Pitch 0.95mm, Lead Span 2.8mm, IPC High Density)
footprint MF06A_M (SOT23, 6-Leads, Body 2.9x1.6mm, Pitch 0.95mm, Lead Span 2.8mm, IPC Low Density)
pins: 1 VCC (power), 2 GND (power), 3 EN (in), 4 FLAG3 (oc), 5 FLAG2 (oc), 6 FLAG1 (oc)

## LM3880QMFE-1AC/NOPB
designator U?
Power Sequencer, 6-pin SOT-23, Pb-Free; PartNumber: LM3880QMFE-1AC/NOPB; Manufacturer: National Semiconductor; PackageTopMarking: F29A*XTT; PowerWise: N; CompType: MiscPower; Published: 1-Mar-2010; DatasheetVersion: May-2008; PackageVersion: revC, Sep-2005; PackageReference: MF06A; Publisher: Altium Limited; PackageDescription: Molded SOT-23, .115 x .063 x .040in Body, 6 Lead, .0375in in Pitch; Supplier 1: Digi-Key; Supplier Part Number 1: LM3880QMFE-1AC-ND; RoHS: Y; PinCount: 6; Code_JEDEC: MO-178-AB; Code_IPC: SOT26A-6; ComponentLink1Description: LM3880Q Datasheet; ComponentLink1URL: http://www.national.com/ds/LM/LM3880.pdf; ComponentLink2Description: LM3880Q Web Page; ComponentLink2URL: http://www.national.com/pf/LM/LM3880Q.html; ComponentLink3Description: MF06A Package Page; ComponentLink3URL: http://www.national.com/packaging/folders/mf06a.html
footprint MF06A_N (SOT23, 6-Leads, Body 2.9x1.6mm, Pitch 0.95mm, Lead Span 2.8mm, IPC Medium Density)
footprint MF06A_L (SOT23, 6-Leads, Body 2.9x1.6mm, Pitch 0.95mm, Lead Span 2.8mm, IPC High Density)
footprint MF06A_M (SOT23, 6-Leads, Body 2.9x1.6mm, Pitch 0.95mm, Lead Span 2.8mm, IPC Low Density)
pins: 1 VCC (power), 2 GND (power), 3 EN (in), 4 FLAG3 (oc), 5 FLAG2 (oc), 6 FLAG1 (oc)

## LM3880QMFE-1AD/NOPB
designator U?
Power Sequencer, 6-pin SOT-23, Pb-Free; PartNumber: LM3880QMFE-1AD/NOPB; Manufacturer: National Semiconductor; PackageTopMarking: F30A*XTT; PowerWise: N; CompType: MiscPower; Published: 1-Mar-2010; DatasheetVersion: May-2008; PackageVersion: revC, Sep-2005; PackageReference: MF06A; Publisher: Altium Limited; PackageDescription: Molded SOT-23, .115 x .063 x .040in Body, 6 Lead, .0375in in Pitch; Supplier 1: Digi-Key; Supplier Part Number 1: LM3880QMFE-1AD-ND; RoHS: Y; PinCount: 6; Code_JEDEC: MO-178-AB; Code_IPC: SOT26A-6; ComponentLink1Description: LM3880Q Datasheet; ComponentLink1URL: http://www.national.com/ds/LM/LM3880.pdf; ComponentLink2Description: LM3880Q Web Page; ComponentLink2URL: http://www.national.com/pf/LM/LM3880Q.html; ComponentLink3Description: MF06A Package Page; ComponentLink3URL: http://www.national.com/packaging/folders/mf06a.html
footprint MF06A_N (SOT23, 6-Leads, Body 2.9x1.6mm, Pitch 0.95mm, Lead Span 2.8mm, IPC Medium Density)
footprint MF06A_L (SOT23, 6-Leads, Body 2.9x1.6mm, Pitch 0.95mm, Lead Span 2.8mm, IPC High Density)
footprint MF06A_M (SOT23, 6-Leads, Body 2.9x1.6mm, Pitch 0.95mm, Lead Span 2.8mm, IPC Low Density)
pins: 1 VCC (power), 2 GND (power), 3 EN (in), 4 FLAG3 (oc), 5 FLAG2 (oc), 6 FLAG1 (oc)

## LM3880QMFE-1AE/NOPB
designator U?
Power Sequencer, 6-pin SOT-23, Pb-Free; PartNumber: LM3880QMFE-1AE/NOPB; Manufacturer: National Semiconductor; PackageTopMarking: F24A*XTT; PowerWise: N; CompType: MiscPower; Published: 1-Mar-2010; DatasheetVersion: May-2008; PackageVersion: revC, Sep-2005; PackageReference: MF06A; Publisher: Altium Limited; PackageDescription: Molded SOT-23, .115 x .063 x .040in Body, 6 Lead, .0375in in Pitch; Supplier 1: Digi-Key; Supplier Part Number 1: LM3880QMFE-1AETR-ND; Supplier 2: Digi-Key; Supplier Part Number 2: LM3880QMFE-1AECT-ND; Supplier 3: Digi-Key; Supplier Part Number 3: LM3880QMFE-1AEDKR-ND; RoHS: Y; PinCount: 6; Code_JEDEC: MO-178-AB; Code_IPC: SOT26A-6; ComponentLink1Description: LM3880Q Datasheet; ComponentLink1URL: http://www.national.com/ds/LM/LM3880.pdf; ComponentLink2Description: LM3880Q Web Page; ComponentLink2URL: http://www.national.com/pf/LM/LM3880Q.html; ComponentLink3Description: MF06A Package Page; ComponentLink3URL: http://www.national.com/packaging/folders/mf06a.html
footprint MF06A_N (SOT23, 6-Leads, Body 2.9x1.6mm, Pitch 0.95mm, Lead Span 2.8mm, IPC Medium Density)
footprint MF06A_L (SOT23, 6-Leads, Body 2.9x1.6mm, Pitch 0.95mm, Lead Span 2.8mm, IPC High Density)
footprint MF06A_M (SOT23, 6-Leads, Body 2.9x1.6mm, Pitch 0.95mm, Lead Span 2.8mm, IPC Low Density)
pins: 1 VCC (power), 2 GND (power), 3 EN (in), 4 FLAG3 (oc), 5 FLAG2 (oc), 6 FLAG1 (oc)

## LM3880QMFX-1AA/NOPB
designator U?
Power Sequencer, 6-pin SOT-23, Pb-Free; PartNumber: LM3880QMFX-1AA/NOPB; Manufacturer: National Semiconductor; PackageTopMarking: F27A*XTT; PowerWise: N; CompType: MiscPower; Published: 1-Mar-2010; DatasheetVersion: May-2008; PackageVersion: revC, Sep-2005; PackageReference: MF06A; Publisher: Altium Limited; PackageDescription: Molded SOT-23, .115 x .063 x .040in Body, 6 Lead, .0375in in Pitch; Supplier 1: Digi-Key; Supplier Part Number 1: LM3880QMFX-1AA-ND; RoHS: Y; PinCount: 6; Code_JEDEC: MO-178-AB; Code_IPC: SOT26A-6; ComponentLink1Description: LM3880Q Datasheet; ComponentLink1URL: http://www.national.com/ds/LM/LM3880.pdf; ComponentLink2Description: LM3880Q Web Page; ComponentLink2URL: http://www.national.com/pf/LM/LM3880Q.html; ComponentLink3Description: MF06A Package Page; ComponentLink3URL: http://www.national.com/packaging/folders/mf06a.html
footprint MF06A_N (SOT23, 6-Leads, Body 2.9x1.6mm, Pitch 0.95mm, Lead Span 2.8mm, IPC Medium Density)
footprint MF06A_L (SOT23, 6-Leads, Body 2.9x1.6mm, Pitch 0.95mm, Lead Span 2.8mm, IPC High Density)
footprint MF06A_M (SOT23, 6-Leads, Body 2.9x1.6mm, Pitch 0.95mm, Lead Span 2.8mm, IPC Low Density)
pins: 1 VCC (power), 2 GND (power), 3 EN (in), 4 FLAG3 (oc), 5 FLAG2 (oc), 6 FLAG1 (oc)

## LM3880QMFX-1AB/NOPB
designator U?
Power Sequencer, 6-pin SOT-23, Pb-Free; PartNumber: LM3880QMFX-1AB/NOPB; Manufacturer: National Semiconductor; PackageTopMarking: F28A*XTT; PowerWise: N; CompType: MiscPower; Published: 1-Mar-2010; DatasheetVersion: May-2008; PackageVersion: revC, Sep-2005; PackageReference: MF06A; Publisher: Altium Limited; PackageDescription: Molded SOT-23, .115 x .063 x .040in Body, 6 Lead, .0375in in Pitch; Supplier 1: Digi-Key; Supplier Part Number 1: LM3880QMFX-1AB-ND; RoHS: Y; PinCount: 6; Code_JEDEC: MO-178-AB; Code_IPC: SOT26A-6; ComponentLink1Description: LM3880Q Datasheet; ComponentLink1URL: http://www.national.com/ds/LM/LM3880.pdf; ComponentLink2Description: LM3880Q Web Page; ComponentLink2URL: http://www.national.com/pf/LM/LM3880Q.html; ComponentLink3Description: MF06A Package Page; ComponentLink3URL: http://www.national.com/packaging/folders/mf06a.html
footprint MF06A_N (SOT23, 6-Leads, Body 2.9x1.6mm, Pitch 0.95mm, Lead Span 2.8mm, IPC Medium Density)
footprint MF06A_L (SOT23, 6-Leads, Body 2.9x1.6mm, Pitch 0.95mm, Lead Span 2.8mm, IPC High Density)
footprint MF06A_M (SOT23, 6-Leads, Body 2.9x1.6mm, Pitch 0.95mm, Lead Span 2.8mm, IPC Low Density)
pins: 1 VCC (power), 2 GND (power), 3 EN (in), 4 FLAG3 (oc), 5 FLAG2 (oc), 6 FLAG1 (oc)